# EAGLE library part ATSAMV70N20B (library ATSAM)
ARM® Cortex®-M7 Automotive, AEC-Q100, SAM V70 Microcontroller IC 32-Bit 300MHz 1MB (1M x 8) FLASH 100-LQFP (14x14)
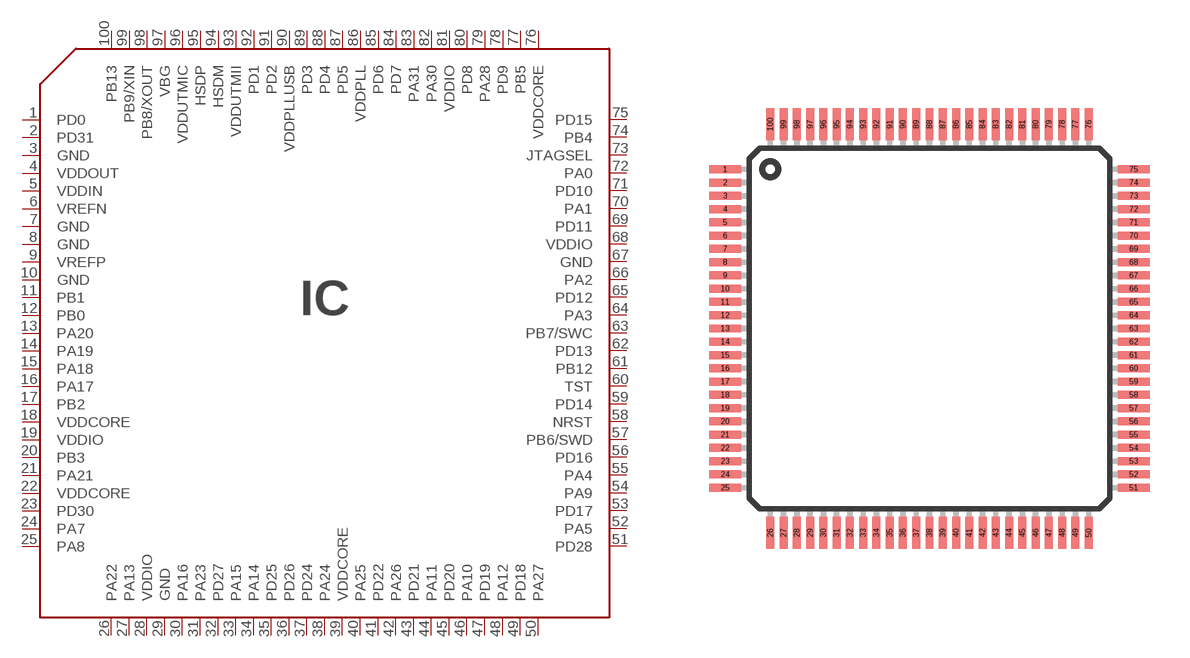
[diagram p0: symbol with the pads of LQFP100; footprint LQFP100]

Designator prefix IC

## ATSAMV70N20B-LQFP100 (DIGIKEY#: ATSAMV70N20B-AAB-ND; MANF: Microchip Technology; MANF#: ATSAMV70N20B-AAB)  [LQFP100]
1  PD0
2  PD31
3  GND
4  VDDOUT
5  VDDIN
6  VREFN
7  GND
8  GND
9  VREFP
10  GND
11  PB1
12  PB0
13  PA20
14  PA19
15  PA18
16  PA17
17  PB2
18  VDDCORE
19  VDDIO
20  PB3
21  PA21
22  VDDCORE
23  PD30
24  PA7
25  PA8
26  PA22
27  PA13
28  VDDIO
29  GND
30  PA16
31  PA23
32  PD27
33  PA15
34  PA14
35  PD25
36  PD26
37  PD24
38  PA24
39  VDDCORE
40  PA25
41  PD22
42  PA26
43  PD21
44  PA11
45  PD20
46  PA10
47  PD19
48  PA12
49  PD18
50  PA27
51  PD28
52  PA5
53  PD17
54  PA9
55  PA4
56  PD16
57  PB6/SWD
58  NRST
59  PD14
60  TST
61  PB12
62  PD13
63  PB7/SWC
64  PA3
65  PD12
66  PA2
67  GND
68  VDDIO
69  PD11
70  PA1
71  PD10
72  PA0
73  JTAGSEL
74  PB4
75  PD15
76  VDDCORE
77  PB5
78  PD9
79  PA28
80  PD8
81  VDDIO
82  PA30
83  PA31
84  PD7
85  PD6
86  VDDPLL
87  PD5
88  PD4
89  PD3
90  VDDPLLUSB
91  PD2
92  PD1
93  VDDUTMII
94  HSDM
95  HSDP
96  VDDUTMIC
97  VBG
98  PB8/XOUT
99  PB9/XIN
100  PB13

## Footprint LQFP100 (pad centres in mm)
3D model <https://grabcad.com/library/lqfp100-1>
smd 1.2 x 0.3: 1 -7.7,6; 2 -7.7,5.5; 3 -7.7,5; 4 -7.7,4.5; 5 -7.7,4; 6 -7.7,3.5; 7 -7.7,3; 8 -7.7,2.5; 9 -7.7,2; 10 -7.7,1.5; 11 -7.7,1; 12 -7.7,0.5; 13 -7.7,0; 14 -7.7,-0.5; 15 -7.7,-1; 16 -7.7,-1.5; 17 -7.7,-2; 18 -7.7,-2.5; 19 -7.7,-3; 20 -7.7,-3.5; 21 -7.7,-4; 22 -7.7,-4.5; 23 -7.7,-5; 24 -7.7,-5.5; 25 -7.7,-6; 51 7.7,-6; 52 7.7,-5.5; 53 7.7,-5; 54 7.7,-4.5; 55 7.7,-4; 56 7.7,-3.5; 57 7.7,-3; 58 7.7,-2.5; 59 7.7,-2; 60 7.7,-1.5; 61 7.7,-1; 62 7.7,-0.5; 63 7.7,0; 64 7.7,0.5; 65 7.7,1; 66 7.7,1.5; 67 7.7,2; 68 7.7,2.5; 69 7.7,3; 70 7.7,3.5; 71 7.7,4; 72 7.7,4.5; 73 7.7,5; 74 7.7,5.5; 75 7.7,6
smd 0.3 x 1.2: 26 -6,-7.7; 27 -5.5,-7.7; 28 -5,-7.7; 29 -4.5,-7.7; 30 -4,-7.7; 31 -3.5,-7.7; 32 -3,-7.7; 33 -2.5,-7.7; 34 -2,-7.7; 35 -1.5,-7.7; 36 -1,-7.7; 37 -0.5,-7.7; 38 0,-7.7; 39 0.5,-7.7; 40 1,-7.7; 41 1.5,-7.7; 42 2,-7.7; 43 2.5,-7.7; 44 3,-7.7; 45 3.5,-7.7; 46 4,-7.7; 47 4.5,-7.7; 48 5,-7.7; 49 5.5,-7.7; 50 6,-7.7; 76 6,7.7; 77 5.5,7.7; 78 5,7.7; 79 4.5,7.7; 80 4,7.7; 81 3.5,7.7; 82 3,7.7; 83 2.5,7.7; 84 2,7.7; 85 1.5,7.7; 86 1,7.7; 87 0.5,7.7; 88 0,7.7; 89 -0.5,7.7; 90 -1,7.7; 91 -1.5,7.7; 92 -2,7.7; 93 -2.5,7.7; 94 -3,7.7; 95 -3.5,7.7; 96 -4,7.7; 97 -4.5,7.7; 98 -5,7.7; 99 -5.5,7.7; 100 -6,7.7